# Altium schematic symbol library Schlib1.SchLib: 6 symbols
Pins are listed as number, name and electrical type; pins without a type are passive.

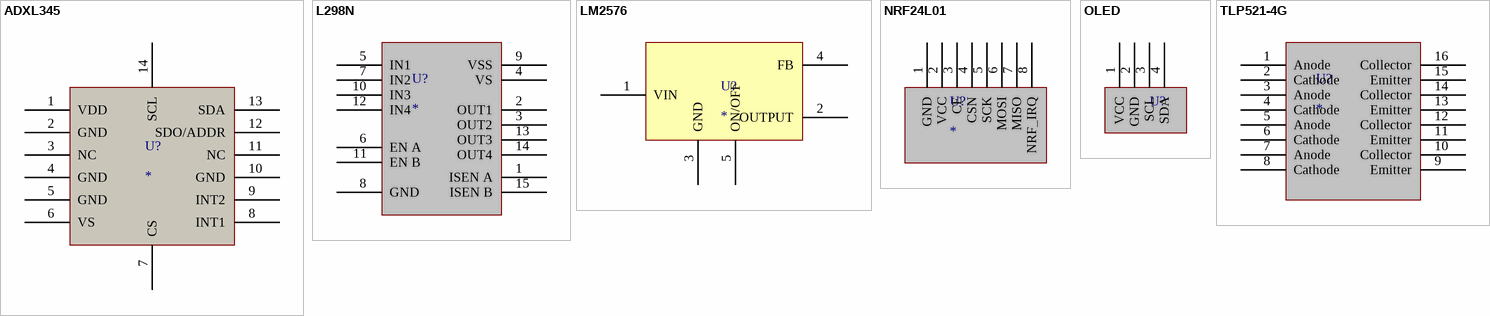
[diagram p0: symbols ADXL345 to TLP521-4G]

## ADXL345
designator U?
pins: 1 VDD, 2 GND, 3 NC, 4 GND, 5 GND, 6 VS, 7 CS, 8 INT1, 9 INT2, 10 GND, 11 NC, 12 SDO/ADDR, 13 SDA, 14 SCL

## L298N
designator U?
pins: 1 ISEN A, 2 OUT1, 3 OUT2, 4 VS, 5 IN1, 6 EN A, 7 IN2, 8 GND, 9 VSS, 10 IN3, 11 EN B, 12 IN4, 13 OUT3, 14 OUT4, 15 ISEN B

## LM2576
designator U?
pins: 1 VIN, 2 OUTPUT, 3 GND, 4 FB, 5 ON/OFF

## NRF24L01
designator U?
pins: 1 GND, 2 VCC, 3 CE, 4 CSN, 5 SCK, 6 MOSI, 7 MISO, 8 NRF_IRQ

## OLED
designator U?  (value not drawn)
pins: 1 VCC, 2 GND, 3 SCL, 4 SDA

## TLP521-4G
designator U?
pins: 1 Anode, 2 Cathode, 3 Anode, 4 Cathode, 5 Anode, 6 Cathode, 7 Anode, 8 Cathode, 9 Emitter, 10 Collector, 11 Emitter, 12 Collector, 13 Emitter, 14 Collector, 15 Emitter, 16 Collector